# Altium schematic symbol library RF Antennas.SchLib: 1 symbol
Pins are listed as number, name and electrical type; pins without a type are passive.

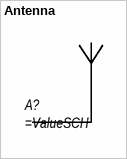
[diagram p0: symbol Antenna]

## Antenna
designator A?
pins: 1